# EAGLE library part ADS1220 (library ipas)
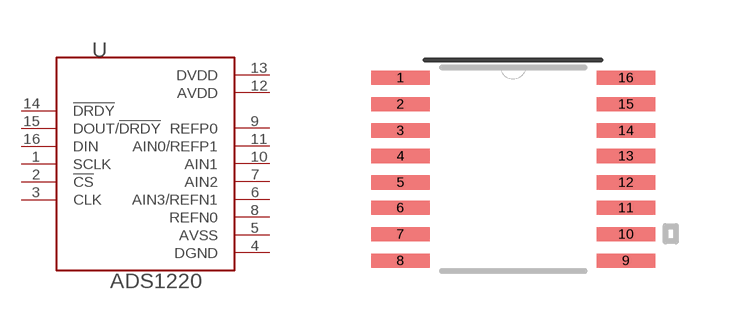
[diagram p42: symbol with the pads of TSSOP-16; footprint TSSOP-16]

Designator prefix -

## ADS1220  [TSSOP-16]
1  SCLK
2  !CS
3  CLK
4  DGND
5  AVSS
6  AIN3/REFN1
7  AIN2
8  REFN0
9  REFP0
10  AIN1
11  AIN0/REFP1
12  AVDD
13  DVDD
14  !DRDY
15  DOUT/!DRDY
16  DIN

## Footprint TSSOP-16 (pad centres in mm)
smd 1.473 x 0.356: 1 -2.819,2.656; 2 -2.819,1.996; 3 -2.819,1.335; 4 -2.819,0.7; 5 -2.819,0.04; 6 -2.819,-0.595; 7 -2.819,-1.256; 8 -2.819,-1.916; 9 2.819,-1.916; 10 2.819,-1.256; 11 2.819,-0.595; 12 2.819,0.04; 13 2.819,0.7; 14 2.819,1.335; 15 2.819,1.996; 16 2.819,2.656